# EAGLE library part XC2C32A (library xilinx)
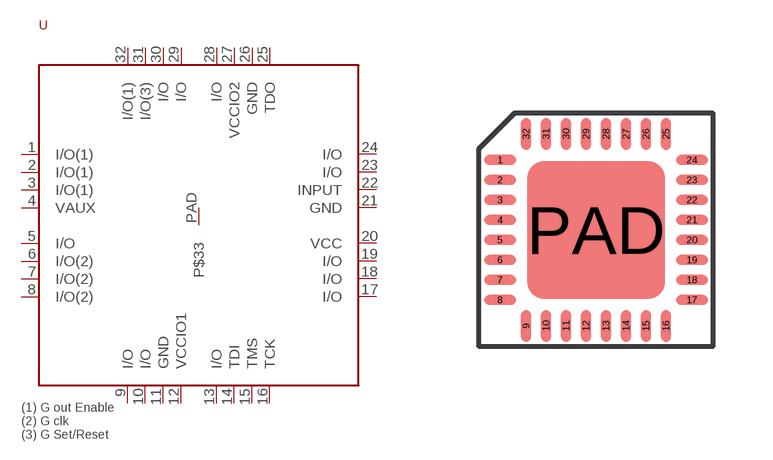
[diagram p4: symbol with the pads of 32QFN; footprint 32QFN]

Designator prefix -

## XC2C32A  [32QFN]
1  I/O(1)
2  I/O(1)
3  I/O(1)
4  VAUX
5  I/O
6  I/O(2)
7  I/O(2)
8  I/O(2)
9  I/O
10  I/O
11  GND
12  VCCIO1
13  I/O
14  TDI
15  TMS
16  TCK
17  I/O
18  I/O
19  I/O
20  VCC
21  GND
22  INPUT
23  I/O
24  I/O
25  TDO
26  GND
27  VCCIO2
28  I/O
29  I/O
30  I/O
31  I/O(3)
32  I/O(1)
PAD  P$33

## Footprint 32QFN (pad centres in mm)
smd 0.8 x 0.25: 1 -2.4,1.75; 2 -2.4,1.25; 3 -2.4,0.75; 4 -2.4,0.25; 5 -2.4,-0.25; 6 -2.4,-0.75; 7 -2.4,-1.25; 8 -2.4,-1.75; 17 2.4,-1.75; 18 2.4,-1.25; 19 2.4,-0.75; 20 2.4,-0.25; 21 2.4,0.25; 22 2.4,0.75; 23 2.4,1.25; 24 2.4,1.75
smd 0.25 x 0.8: 9 -1.75,-2.4; 10 -1.25,-2.4; 11 -0.75,-2.4; 12 -0.25,-2.4; 13 0.25,-2.4; 14 0.75,-2.4; 15 1.25,-2.4; 16 1.75,-2.4; 25 1.75,2.4; 26 1.25,2.4; 27 0.75,2.4; 28 0.25,2.4; 29 -0.25,2.4; 30 -0.75,2.4; 31 -1.25,2.4; 32 -1.75,2.4
smd 3.45 x 3.45: PAD 0,0